# Altium footprint library TO254P1000X440X100-3.PcbLib: 1 footprints
Each footprint in its own frame and in the unit in brackets; x right, y up, seen from the top. Pads: shape width x height; smd on the part's side, far side on the other; paste and mask are expansions set on the pad; w line width, h text height; cw(c..) or ccw(c..) is an arc to the next point about the centre after c.
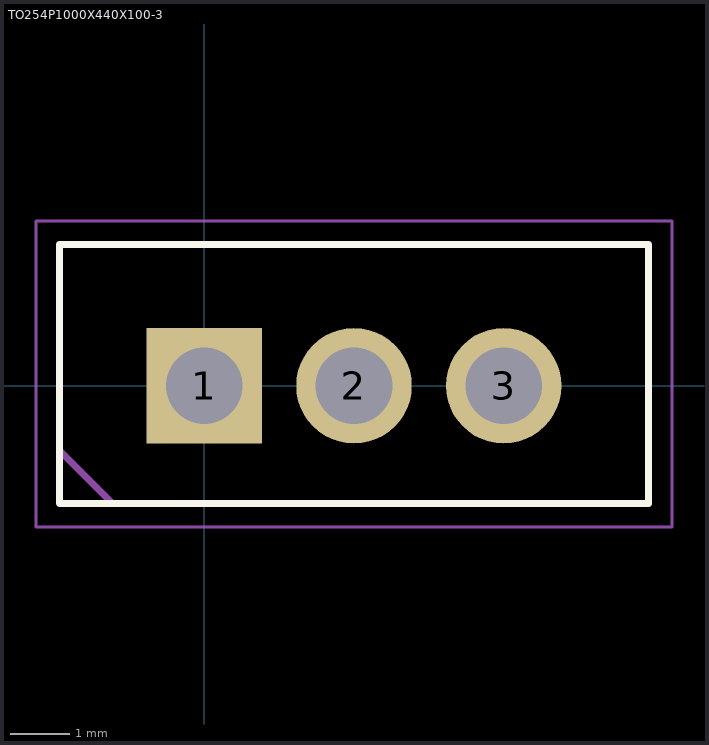
[diagram p0: the footprint, top view; thin cyan lines are the x and y axes]

## TO254P1000X440X100-3 [mm] "Flange Mount (TO) Vertical, 2.54 mm pitch; 3 pin, 10.00 mm W X 4.40 mm H X 1.00 mm mounted height"
height 1
pads (3):
  rect 1.96x1.96 / inner round 1.96 / far side rect 1.96x1.96 hole 1.3 paste-1.96: 1(0,0)
  round 1.96 hole 1.3 paste-1.96: 2(2.54,0) 3(5.08,0)
Top Overlay:
  lines w0.12: -2.46,-2 7.54,-2 7.54,2.4 -2.46,2.4 -2.46,-2
Mechanical 3:
  lines w0.12: -2.46,-1.096 -2.46,2.4 7.54,2.4 7.54,-2 -1.556,-2 -2.46,-1.096
Mechanical 5:
  lines w0.025: -0.45,-0.35 -0.45,0.35 0.45,0.35 0.45,-0.35 -0.45,-0.35 ; 2.09,-0.35 2.09,0.35 2.99,0.35 2.99,-0.35 2.09,-0.35 ; 4.63,-0.35 4.63,0.35 5.53,0.35 5.53,-0.35 4.63,-0.35
Mechanical 7:
  circle w0.05: c0,0 r0.25
  lines w0.025: -2.46,-2 7.54,-2 7.54,2.4 -2.46,2.4 -2.46,-2
  lines w0.05: -0.35,0 0.35,0 ; 0,-0.35 0,0.35 ; -2.86,-2.4 7.94,-2.4 7.94,2.8 -2.86,2.8 -2.86,-2.4
Mechanical 9:
  text ".Designator" at -1.143,3.175 h0.76
3D body "TO254P1000X440X100-3.STEP": height 7.25, standoff -5.14, extent -2.46,-2 7.54,2.4
3D body "TO254P1000X440X100-3.STEP": height 7.25, standoff -5.14, extent -2.46,-2 7.54,2.4